# EAGLE library part ZERO (library RasPi)
Raspbery Pi Foundation Zero https://www.raspberrypi.org/products/pi-zero/
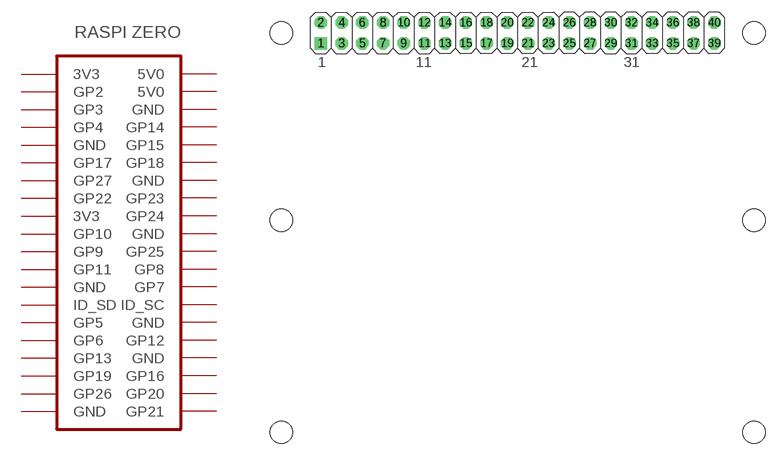
[diagram p0: symbol with the pads of ZERO; footprint ZERO]

Designator prefix -

## ZERO  [ZERO]
1  3V3
2  5V0
3  GP2
4  5V0
5  GP3
6  GND
7  GP4
8  GP14
9  GND
10  GP15
11  GP17
12  GP18
13  GP27
14  GND
15  GP22
16  GP23
17  3V3
18  GP24
19  GP10
20  GND
21  GP9
22  GP25
23  GP11
24  GP8
25  GND
26  GP7
27  ID_SD
28  ID_SC
29  GP5
30  GND
31  GP6
32  GP12
33  GP13
34  GND
35  GP19
36  GP16
37  GP26
38  GP20
39  GND
40  GP21

## Footprint ZERO (pad centres in mm)
Source: https://www.raspberrypi.org/documentation/hardware/raspberrypi/mechanical/rpi-zero-v1_2_dimensions.pdf
drill 1.016 square: 1 8.37,25.24
drill 1.016 octagon: 2 8.37,27.78; 3 10.91,25.24; 4 10.91,27.78; 5 13.45,25.24; 6 13.45,27.78; 7 15.99,25.24; 8 15.99,27.78; 9 18.53,25.24; 10 18.53,27.78; 11 21.07,25.24; 12 21.07,27.78; 13 23.61,25.24; 14 23.61,27.78; 15 26.15,25.24; 16 26.15,27.78; 17 28.69,25.24; 18 28.69,27.78; 19 31.23,25.24; 20 31.23,27.78; 21 33.77,25.24; 22 33.77,27.78; 23 36.31,25.24; 24 36.31,27.78; 25 38.85,25.24; 26 38.85,27.78; 27 41.39,25.24; 28 41.39,27.78; 29 43.93,25.24; 30 43.93,27.78; 31 46.47,25.24; 32 46.47,27.78; 33 49.01,25.24; 34 49.01,27.78; 35 51.55,25.24; 36 51.55,27.78; 37 54.09,25.24; 38 54.09,27.78; 39 56.63,25.24; 40 56.63,27.78
hole 2.75 at 3.5,3.5
hole 2.75 at 3.5,26.5
hole 2.75 at 61.5,26.5
hole 2.75 at 61.5,3.5
hole 2.75 at 3.5,-22.5
hole 2.75 at 61.5,-22.5